# Altium schematic symbol library Molex_SL_Series.SchLib: 1 symbol
Pins are listed as number, name and electrical type; pins without a type are passive.

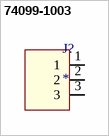
[diagram p0: symbol 74099-1003]

## 74099-1003
designator J?
Headers & Wire Housings 2.54 WIRE/BOARD HDR Vertical 3 CKT; Manufacturer 1: Molex; Manufacturer Part Number 1: 74099-1003; Contact Resistance: 15mR; Max Voltage Rating (AC): 250V; Number of Positions: 3; Gender: Male; Current Rating: 3A; Pitch: 2.54mm; Supplier 1: Digi-Key; Stock 1: 58; Pricing 1: 1=2.27000, 10=2.05800, 100=1.76400, 500=1.47000, 2496=1.17600, 7488=1.11720 (USD); RoHS: Yes; Mount: Surface Mount; Contact Plating: Gold; Contact Material: Bronze; Housing Color: Black; Housing Material: Plastic; Min Operating Temperature: -40°C; Max Operating Temperature: 105°C; Number of Rows: 1; Packaging: Rail/Tube; Termination: Solder; Number of Contacts: 3; Orientation: Straight; Package Quantity: 2496; Voltage Rating: 250V; Length: 10.2mm; Height: 11.4mm; Width: 6.6mm; Radiation Hardening: No; REACH SVHC: Unknown; Lead Free: Lead Free; ComponentLink1URL: https://datasheet.ciiva.com/5153/0740991003-pcb-headers-173701-5153100.pdf?src-supplier=Mouser; ComponentLink1Description: https://datasheet.ciiva.com/5153/0740991003-pcb-headers-173701-5153100.pdf?src-supplier=Mouser; ComponentLink2URL: https://datasheet.ciiva.com/30116/2180740991003-pcb-headers-30116772.pdf?src-supplier=Onlinecomponents.com; ComponentLink2Description: https://datasheet.ciiva.com/30116/2180740991003-pcb-headers-30116772.pdf?src-supplier=Onlinecomponents.com; ComponentLink3URL: https://datasheet.ciiva.com/16733/0740991003-pcb-headers-16733868.pdf?src-supplier=Avnet+Europe; ComponentLink3Description: https://datasheet.ciiva.com/16733/0740991003-pcb-headers-16733868.pdf?src-supplier=Avnet+Europe; ComponentLink4URL: https://datasheet.ciiva.com/10088/0740991003-pcb-headers-10088252.pdf?src-supplier=Avnet; ComponentLink4Description: https://datasheet.ciiva.com/10088/0740991003-pcb-headers-10088252.pdf?src-supplier=Avnet
footprint 74099-1003
pins: 1, 2, 3